# Altium schematic symbol library LD111733.SchLib: 1 symbol
Pins are listed as number, name and electrical type; pins without a type are passive.

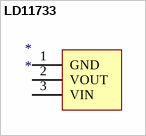
[diagram p0: symbol LD11733]

## LD11733
designator *
footprint SOT-223
pins: 1 GND (power), 2 VOUT (power), 3 VIN (power)